# Altium schematic symbol library microchip.SchLib: 1 symbol
Pins are listed as number, name and electrical type; pins without a type are passive.

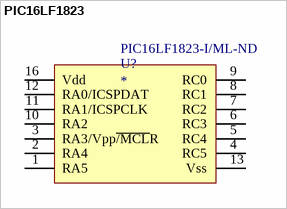
[diagram p0: symbol PIC16LF1823]

## PIC16LF1823
designator U?  Supplier Part Number 1: PIC16LF1823-I/ML-ND
14-Pin Flash Microcontrollers with XLP Technology; Supplier 1: Digi-Key
footprint QFN65P400X400X100_HS-17L (QFN, 16-Leads, Body 4.00x4.00mm, Pitch 0.65mm, Thermal Pad 2.50x2.50mm, IPC High Density)
pins: 1 RA5, 2 RA4, 3 RA3/Vpp~{/MCL}R, 4 RC5, 5 RC4, 6 RC3, 7 RC2, 8 RC1, 9 RC0, 10 RA2, 11 RA1/ICSPCLK, 12 RA0/ICSPDAT, 13 Vss, 16 Vdd